# Altium integrated library OPL_Circuit_Protection.IntLib: 2 symbols
Pins are listed as number, name and electrical type; pins without a type are passive.

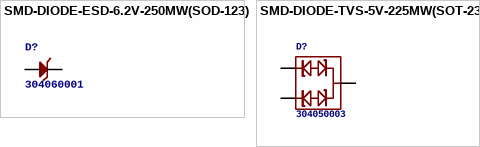
[diagram p0: symbols SMD-DIODE-ESD-6.2V-250MW(SOD-123) to SMD-DIODE-TVS-5V-225MW(SOT-23)]

## SMD-DIODE-ESD-6.2V-250MW(SOD-123)
designator D?, comment 304060001
MPN: CESD5V0D1
footprint SOD-123
pins: + 1, - 2

## SMD-DIODE-TVS-5V-225MW(SOT-23)
designator D?, comment 304050003
MPN: CESD5V0AP
footprint SOT-23
pins: 1 (power), 2 (power), 3